# EAGLE library part SAMTEC-CLT-111-01-X-D (library SAMTEC-CLT-111-01-X-D)
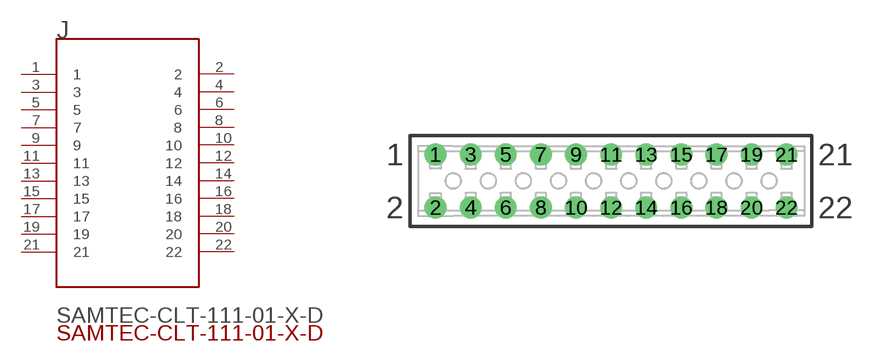
[diagram p0: symbol with the pads of SAMTEC-CLT-111-01-X-D; footprint SAMTEC-CLT-111-01-X-D]

Designator prefix J

## SAMTEC-CLT-111-01-X-DJ  [SAMTEC-CLT-111-01-X-D]
1  1  pas
2  2  pas
3  3  pas
4  4  pas
5  5  pas
6  6  pas
7  7  pas
8  8  pas
9  9  pas
10  10  pas
11  11  pas
12  12  pas
13  13  pas
14  14  pas
15  15  pas
16  16  pas
17  17  pas
18  18  pas
19  19  pas
20  20  pas
21  21  pas
22  22  pas

## Footprint SAMTEC-CLT-111-01-X-D (pad centres in mm)
translated Allegro footprint
drill 0.64 pad 1.24: 1 -10,1.511; 2 -10,-1.511; 3 -8,1.511; 4 -8,-1.511; 5 -6,1.511; 6 -6,-1.511; 7 -4,1.511; 8 -4,-1.511; 9 -2,1.511; 10 -2,-1.511; 11 0,1.511; 12 0,-1.511; 13 2,1.511; 14 2,-1.511; 15 4,1.511; 16 4,-1.511; 17 6,1.511; 18 6,-1.511; 19 8,1.511; 20 8,-1.511; 21 10,1.511; 22 10,-1.511